# Altium footprint library XH-4AW.PcbLib: 1 footprints
Each footprint in its own frame and in the unit in brackets; x right, y up, seen from the top. Pads: shape width x height; smd on the part's side, far side on the other; paste and mask are expansions set on the pad; w line width, h text height; cw(c..) or ccw(c..) is an arc to the next point about the centre after c.
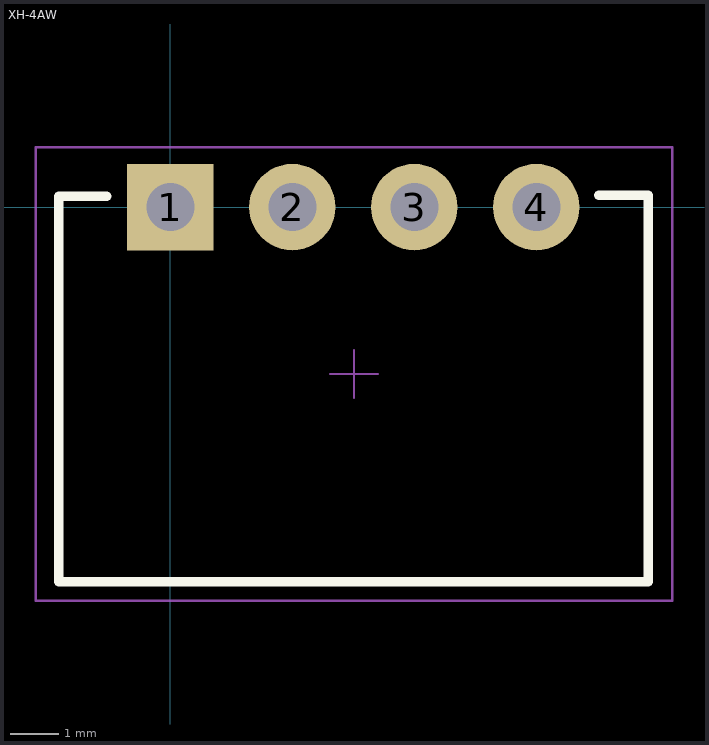
[diagram p0: the footprint, top view; thin cyan lines are the x and y axes]

## XH-4AW [mm]
pads (4):
  rect 1.8x1.8 hole 1: 1(0,0)
  round 1.8 hole 1: 2(2.54,0) 3(5.08,0) 4(7.62,0)
Top Overlay:
  lines w0.2: -1.325,0.225 -2.325,0.225 -2.325,-7.8 9.95,-7.8 9.95,0.25 8.925,0.25
Top Courtyard:
  lines w0.05: 3.325,-3.475 4.325,-3.475 ; 3.825,-3.975 3.825,-2.975 ; -2.8,-8.2 10.45,-8.2 10.45,1.25 -2.8,1.25 -2.8,-8.2
3D body "JST - XH - Thru (R) - 4Pin - 2.54mm.stp": height 5.84, standoff -3.38, extent -2.347,-7.8 9.947,0.236